# Altium schematic symbol library PCB.SCHLIB: 26 symbols
Pins are listed as number, name and electrical type; pins without a type are passive.

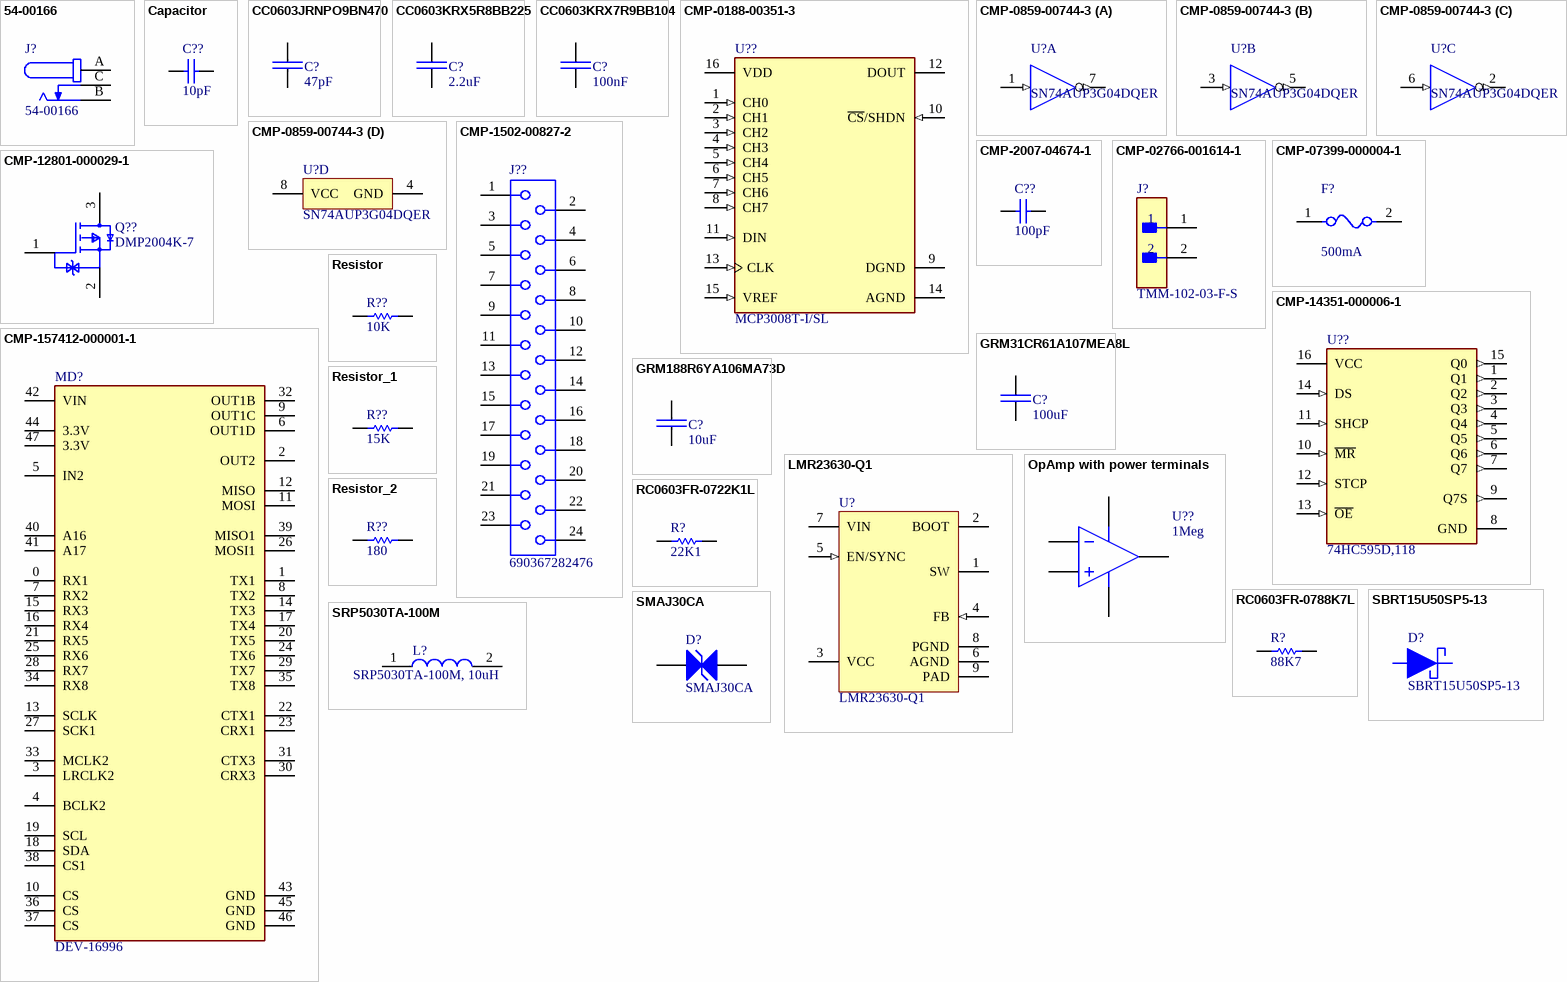
[diagram p0: symbols 54-00166 to SRP5030TA-100M]

## 54-00166
designator J?
Connector, dc jack 5.5x2.1 mm, PCB mount, 90 degrees, nickel plated, PBT, thru hole; MF: Tensility International Corp; SnapEDA_Link: https://www.snapeda.com/parts/54-00166/Tensility/view-part/?ref=snap; Package: None; Value: *; MP: 54-00166; Check_prices: https://www.snapeda.com/parts/54-00166/Tensility/view-part/?ref=eda
footprint TENSILITY_54-00166
pins: A, B, C

## Capacitor
designator C??  value 10pF  (hidden comment: Capacitor)
SimulationGenericComponent: True
simulation model C_Capacitor_Default (CAP)
pins: 1, 2

## CC0603JRNPO9BN470
designator C?, comment 47pF
CAP 47pF SM0603 NPO 50V YAGEO CC2; Manufacturer Part Number: CC0603JRNPO9BN470; Tolerance (%): 5; Voltage Rating (Volts): 50; Category: Capacitor; Manufacturer: Yageo; Package: 0603; Value: 47pF; Supplier Part Number 1: 722042; Supplier 1: Farnell; ComponentLink1URL: http://www.yageo.com; ComponentLink1Description: Manufacturer Website; Supplier 2: Digi-Key; Supplier Part Number 2: 311-1065-1-ND
footprint CAP_SM0603_YAGEOCC2_N (Capacitor, Yageo CC Class2, SM0603, IPC Medium Density)
pins: 1, 2

## CC0603KRX5R8BB225
designator C?, comment 2.2uF
CAP CER 2.2UF 25V X5R 0603; Manufacturer: Yageo; Manufacturer Part Number: CC0603KRX7R9BB183; Tolerance (%): 10; Voltage Rating (Volts): 50; Category: Capacitor; Package: 0603; Value: 2.2uF; Supplier Part Number 1: 3019743; Supplier 1: Farnell; ComponentLink1URL: http://www.yageo.com; ComponentLink1Description: Manufacturer Website; Supplier 2: Digi-Key
footprint CAP_SM0603_YAGEOCC2_N (Capacitor, Yageo CC Class2, SM0603, IPC Medium Density)
pins: 1, 2

## CC0603KRX7R9BB104
designator C?, comment 100nF
CAP 100nF SM0603 X7R 50V YAGEO CC2; Manufacturer Part Number: CC0603KRX7R9BB104; Tolerance (%): 10; Voltage Rating (Volts): 50; Category: Capacitor; Manufacturer: Yageo; Package: 0603; Value: 100nF; Supplier Part Number 1: 1362556; Supplier 1: Farnell; ComponentLink1URL: http://www.yageo.com; ComponentLink1Description: Manufacturer Website; Supplier 2: Digi-Key; Supplier Part Number 2: 311-1344-1-ND
footprint CAP_SM0603_YAGEOCC2_N (Capacitor, Yageo CC Class2, SM0603, IPC Medium Density)
pins: 1, 2

## CMP-0188-00351-3
designator U??, comment MCP3008T-I/SL
IC ADC 10BIT SAR 16SOIC; Resolution: 10b; Output Voltage: 4.1V; Number of Channels: 8; Number of Elements: 1; Number of Bits: 10; Full Scale Error: 1LSB; Signal to Noise Ratio (SNR): 200dB; Interface: SPI; Nominal Supply Current: 425uA; Sampling Rate: 200KS/s; Supply Type: Single; Min Supply Voltage: 2.7V; Max Supply Voltage: 5.5V; Operating Supply Voltage: 5V; Polarity: Unipolar; Min Operating Temperature: -40°C; REACH SVHC: No SVHC; Integral Nonlinearity (INL): 1LSB; Mount: Surface Mount; Number of Converters: 1; Differential Nonlinearity: 1LSB; Contact Plating: Tin; Lead Free: Lead Free; Conversion Rate: 200KS/s; Radiation Hardening: No; Max Operating Temperature: 85°C; Case/Package: SOIC; Package Quantity: 2600; Number of Pins: 16; Packaging: Tape and Reel; Number of A/D Converters: 1
footprint FP-C04-108-MFG
footprint FP-C04-108-IPC_C
footprint FP-C04-108-IPC_B
footprint FP-C04-108-IPC_A
pins: 1 CH0 (in), 2 CH1 (in), 3 CH2 (in), 4 CH3 (in), 5 CH4 (in), 6 CH5 (in), 7 CH6 (in), 8 CH7 (in), 9 DGND (power), 10 ~{CS}/SHDN (in), 11 DIN (in), 12 DOUT (hiz), 13 CLK (in), 14 AGND (power), 15 VREF (in), 16 VDD (power)

## CMP-0859-00744-3
designator U?, comment SN74AUP3G04DQER
Low-Power Triple Inverter Gate, DQE0008A, LARGE T&R; Manufacturer: Texas Instruments; Voltage(Nom)(V): 0.8,1.2,1.5,1.8,2.5,3.3; Rating: Catalog; Schmitt Trigger: No; tpd @ Nom Voltage(Max)(ns): 32.8,20.9,14.2,11,7.6,6.2; ICC @ Nom Voltage(Max)(mA): 0.0009; Output Drive (IOL/IOH)(Max)(mA): 20/-20; Logic: Inverting; VCC(Min)(V): 0.8; Output Type: CMOS; Bits(#): 3; F @ Nom Voltage(Max)(Mhz): 100; VCC(Max)(V): 3.6; Sub-Family: Inverting Buffer/Driver; Technology Family: AUP; Operating Temperature Range(C): -40 to 85; PackageReference: DQE0008A; Generic Part Number: SN74AUP3G04; 3-State Output: No; Input Type: CMOS; DatasheetVersion: SCES762C
footprint DQE0008A_V (SON, 8-Leads, Body 1.4x1mm, Pitch 0.35mm, TI Recommend)
part A pins: 1 1A (in), 7 1Y (out)
part B pins: 3 2A (in), 5 2Y (out)
part C pins: 2 3Y (out), 6 3A (in)
part D pins: 4 GND (power), 8 VCC (power)

## CMP-1502-00827-2
designator J??, comment 690367282476
NexarPartId: 65687603; Pitch: 2.54mm; Insulation Resistance: 1GΩ; Contact Resistance: 10mΩ; Operating Supply Voltage: 100V; Gender: Female; Current Rating: 1.5A; Lead Pitch: 2.54mm; Max Operating Temperature: 105°C; RoHS: Compliant; Min Operating Temperature: -40°C; Packaging: Tape and Reel; Number of Pins: 24; Length: 31.01mm
footprint 690367282476 (WR-MM Female SMT Connector with Polarization)
pins: 1, 2, 3, 4, 5, 6, 7, 8, 9, 10, 11, 12, 13, 14, 15, 16, 17, 18, 19, 20, 21, 22, 23, 24

## CMP-2007-04674-1
designator C??, comment 100pF
Part Number: 0805ZC105KAZ2A; Manufacturer: AVX Interconnect / Elco
footprint CAPC2013X140X50LL20T25 (Chip Capacitor, 2-Leads, Body 2.00x1.25mm, IPC High Density)
footprint CAPC2013X140X50NL20T25 (Chip Capacitor, 2-Leads, Body 2.00x1.25mm, IPC Medium Density)
footprint CAPC2013X140X50ML20T25 (Chip Capacitor, 2-Leads, Body 2.00x1.25mm, IPC Low Density)
pins: 1, 2
1 alternate drawing of the same symbol

## CMP-02766-001614-1
designator J?, comment TMM-102-03-F-S
CONN HEADER VERT 2POS 2MM; Number of Contacts: 2; Gender: Male; Pitch: 2mm; Packaging: Bulk; RoHS Compliant: Yes; Termination: Solder; Contact Plating: Gold; Mount: Through Hole; Number of Rows: 1; Radiation Hardening: No; Lead Free: Lead Free
footprint FP-TMM-102-03-F-S-MFG
pins: 1, 2

## CMP-07399-000004-1
designator F?, comment 500mA
FUSE BOARD MNT 500MA 50VDC 0603; Manufacturer: Bourns Inc.; Manufacturer Part Number: SF-0603S050-2; Fuse I2T: 0.009A2Sec; Fuse Current: 0.5A; Fuse Interrupt Ac Current: 50A; Max Fuse Ac Voltage: 35V; Resistance: 232mΩ; Fuse Blow Speed: Slow; Value: 232mΩ; Max Fuse Dc Voltage: 50V; Automotive: No; Category: Fuse; Temperature Range High: +105°C; Device Class L1: Circuit Protection; Height: 0.55mm; RoHS: TRUE; ComponentLink2URL: https://www.bourns.com/docs/product-datasheets/sf0603s.pdf; Ipc Land Pattern Name: CAPC16080X45; Temperature Range Low: -20°C; Mouser Description: Surface Mount Fuses 0.50A Slow Blow SinglFuse; Package: SF-0603S; Device Class L3: unset; Digikey Description: FUSE BOARD MNT 500MA 50VDC 0603; Device Class L2: Fuses; Lead Free: Yes; Temperature: -20°C to +105°C; ComponentLink2Description: Datasheet; Octopart: https://octopart.com/sf-0603s050-2-bourns-10486821; Fuse Interrupt Dc Current: 50A
footprint FP-SF-0603S-MFG
footprint FP-SF-0603S-IPC_C
footprint FP-SF-0603S-IPC_B
footprint FP-SF-0603S-IPC_A
pins: 1, 2

## CMP-12801-000029-1
designator Q??, comment DMP2004K-7
MOSFET P-CH 20V 600MA SOT23-3; Manufacturer: Diodes Inc.; Max Junction Temp: +150°C; Turn On Delay Time: 8.5ns; Gate To Source Voltage: 8V; Input Capacitace At Vds: 175pF @ -16V; Rthja Max: 227°C/W; Drain To Source Resistance: 1.1Ω; Turn Off Delay Time: 20.2ns; Standoff Height: 0.013mm; Drain To Source Breakdown Voltage: -20V; Number Of P Channels: 1; Power Dissipation: 550mW; Pulse Drain Current: -1.9A; Depletion Mode: False; Max Forward Diode Voltage: -1.2V; Threshold Vgs Min: -0.5V; Threshold Vgs Max: -1V; Continuous Drain Current: -600mA; Manufacturer Part Number: DMP2004K-7; Height: 1.1mm; ComponentLink2Description: Datasheet; ComponentLink2URL: https://www.diodes.com/assets/Datasheets/ds30933.pdf; Package: SOT23; Footprint Url: https://www.diodes.com/assets/Package-Files/SOT23.pdf; Lead Free: Yes; Octopart: https://octopart.com/dmp2004k-7-diodes+inc.-7151877; Digikey Description: MOSFET P-CH 20V 600MA SOT23-3; Device Class L1: Discrete Semiconductors; Drain To Source Voltage: -20V; Mouser Description: MOSFET P-Channel; Number Of Channels: 1; Device Class L3: MOSFETs; Temperature: -55°C to +150°C; Category: Trans; Device Class L2: Transistors; Automotive: No; Temperature Range High: +150°C; RoHS: TRUE; Temperature Range Low: -55°C
footprint FP-SOT23-MFG
footprint FP-SOT23-IPC_C
footprint FP-SOT23-IPC_B
footprint FP-SOT23-IPC_A
pins: 1 G, 2 S, 3 D

## CMP-14351-000006-1
designator U??, comment 74HC595D,118
IC SHIFT REGISTER 8BIT 16SOIC; RoHS Compliant: Yes
footprint FP-SOT109-1-IPC_C
footprint FP-SOT109-1-MFG
footprint FP-SOT109-1-IPC_B
footprint FP-SOT109-1-IPC_A
pins: 1 Q1 (out), 2 Q2 (out), 3 Q3 (out), 4 Q4 (out), 5 Q5 (out), 6 Q6 (out), 7 Q7 (out), 8 GND (power), 9 Q7S (out), 10 ~{MR} (in), 11 SHCP (in), 12 STCP (in), 13 ~{OE} (in), 14 DS (in), 15 Q0 (out), 16 VCC (power)

## CMP-157412-000001-1
designator MD?, comment DEV-16996
TEENSY 4.1 (HEADERS)
footprint FP-DEV-16996-MFG
pins: 0 RX1, 1 TX1, 2 OUT2, 3 LRCLK2, 4 BCLK2, 5 IN2, 6 OUT1D, 7 RX2, 8 TX2, 9 OUT1C, 10 CS, 11 MOSI, 12 MISO, 13 SCLK, 14 TX3, 15 RX3, 16 RX4, 17 TX4, 18 SDA, 19 SCL, 20 TX5, 21 RX5, 22 CTX1, 23 CRX1, 24 TX6, 25 RX6, 26 MOSI1, 27 SCK1, 28 RX7, 29 TX7, 30 CRX3, 31 CTX3, 32 OUT1B, 33 MCLK2, 34 RX8, 35 TX8, 36 CS, 37 CS, 38 CS1, 39 MISO1, 40 A16, 41 A17, 42 VIN, 43 GND, 44 3.3V, 45 GND, 46 GND, 47 3.3V

## GRM31CR61A107MEA8L
designator C?, comment 100uF
Ceramic Capacitor, Multilayer, Ceramic, 10V, 20% +Tol, 20% -Tol, X5R, 15% TC, 100uF, Surface Mount, 1206; Manufacturer: Murata; Manufacturer Part Number: GRM31CR61A107MEA8L; Supplier: Arrow Electronics; Supplier Part Number: GRM31CR61A107MEA8L; RoHS: Yes; Category: Ceramic Capacitors; Stock: 6000; Pricing: 2000=0.1239, 10000=0.1122, 50000=0.0993 (USD); RoHS Compliant: Yes; ComponentLink1URL: https://datasheet.octopart.com/GRM31CR61A107MEA8L-Murata-datasheet-165579666.pdf?src-supplier=TME; ComponentLink1Description: https://datasheet.octopart.com/GRM31CR61A107MEA8L-Murata-datasheet-165579666.pdf?src-supplier=TME
footprint FP-GRM31C-0_3-e0_3_0_8-IPC_A
pins: 1, 2

## GRM188R6YA106MA73D
designator C?, comment 10uF
Ceramic Capacitor, Multilayer, Ceramic, 35V, 20% +Tol, 20% -Tol, X5R, 15% TC, 10uF, Surface Mount, 0603; Manufacturer: Murata; Manufacturer Part Number: GRM188R6YA106MA73D; Multilayer: Yes; Supplier: Arrow Electronics; Supplier Part Number: GRM188R6YA106MA73D; RoHS: Yes; Category: Ceramic Capacitors; Stock: 56000; Pricing: 4000=0.0516, 8000=0.043, 24000=0.0355 (USD); Mounting Technology: Surface Mount; Pins: 2; Dielectric Material: Ceramic; Package Shape: Rectangular; Case/Package: 0603; Terminal Finish: Nickel; Min Operating Temperature: -55°C; Max Operating Temperature: 85°C; JESD-609 Code: e3; Value: 10uF; Capacitor Type: Ceramic; Tolerance  (fill in as +-): 20%; Packaging: Tape and Reel; Tolerance (fill in as +-): 20%; Rated DC Voltage (URdc): 35V; Temperature Characteristics Code: X5R; Termination: Wraparound; Reach SVHC Compliant: Yes; RoHS Compliant: Yes; ComponentLink1URL: https://datasheet.ciiva.com:443/pdfs/VipMasterIC/IC/MURE/MURE-S-A0004349797/MURE-S-A0004352457-1.pdf?src-supplier=IHS+Markit; ComponentLink1Description: https://datasheet.ciiva.com:443/pdfs/VipMasterIC/IC/MURE/MURE-S-A0004349797/MURE-S-A0004352457-1.pdf?src-supplier=IHS+Markit; ComponentLink2URL: http://search.murata.co.jp/Ceramy/image/img/A01X/G101/ENG/GRM188R6YA106MA73-01.pdf?src-supplier=Digikey; ComponentLink2Description: http://search.murata.co.jp/Ceramy/image/img/A01X/G101/ENG/GRM188R6YA106MA73-01.pdf?src-supplier=Digikey; ComponentLink3URL: https://www.murata.com/~/media/webrenewal/support/library/catalog/products/capacitor/mlcc/c02e.ashx?la=en-us&src-supplier=Digikey; ComponentLink3Description: https://www.murata.com/~/media/webrenewal/support/library/catalog/products/capacitor/mlcc/c02e.ashx?la=en-us&src-supplier=Digikey; ComponentLink4URL: https://datasheet.octopart.com/GRM188R6YA106MA73D-Murata-datasheet-149523261.pdf?src-supplier=Newark; ComponentLink4Description: https://datasheet.octopart.com/GRM188R6YA106MA73D-Murata-datasheet-149523261.pdf?src-supplier=Newark; ComponentLink5URL: https://datasheet.octopart.com/GRM188R6YA106MA73D-Murata-datasheet-86813743.pdf?src-supplier=Future+Electronics; ComponentLink5Description: https://datasheet.octopart.com/GRM188R6YA106MA73D-Murata-datasheet-86813743.pdf?src-supplier=Future+Electronics; ComponentLink6URL: http://search.murata.co.jp/Ceramy/image/img/A01X/G101/ENG/GRM188R6YA106MA73-01.pdf?src-supplier=Future+Electronics; ComponentLink6Description: http://search.murata.co.jp/Ceramy/image/img/A01X/G101/ENG/GRM188R6YA106MA73-01.pdf?src-supplier=Future+Electronics; ComponentLink7URL: http://search.murata.co.jp/Ceramy/image/img/A01X/G101/ENG/GRM188R6YA106MA73-01.pdf?src-supplier=Mouser; ComponentLink7Description: http://search.murata.co.jp/Ceramy/image/img/A01X/G101/ENG/GRM188R6YA106MA73-01.pdf?src-supplier=Mouser; ComponentLink8URL: http://search.murata.co.jp/Ceramy/image/img/A01X/G101/ENG/GRM188R6YA106MA73-01.pdf?src-supplier=TTI; ComponentLink8Description: http://search.murata.co.jp/Ceramy/image/img/A01X/G101/ENG/GRM188R6YA106MA73-01.pdf?src-supplier=TTI; ComponentLink9URL: https://datasheet.octopart.com/GRM188R6YA106MA73D-Murata-datasheet-165579666.pdf?src-supplier=TME; ComponentLink9Description: https://datasheet.octopart.com/GRM188R6YA106MA73D-Murata-datasheet-165579666.pdf?src-supplier=TME
footprint CAP_SM0603_YAGEOCC2_N (Capacitor, Yageo CC Class2, SM0603, IPC Medium Density)
pins: 1, 2

## LMR23630-Q1
designator U?
Buck Converter; Manufacturer 1: Texas Instruments; Manufacturer Part Number 1: LMR23630AFQDDARQ1; Supplier 1: Digi-Key; Supplier Part Number 1: 296-45260-1-ND; Stock 1: 2872; Pricing 1: 1=3.97, 10=3.564, 100=2.9204, 500=2.486, 1000=2.0967 (USD); Min Operating Temperature: -40°C; Max Operating Temperature: 125°C
footprint DDA0008E_N (SOP, 8-Leads, Body 4x5mm, Pitch 1.27mm, Thermal Pad 2.4x3.1mm, IPC Medium Density)
pins: 1 SW, 2 BOOT, 3 VCC (power), 4 FB (in), 5 EN/SYNC (in), 6 AGND (power), 7 VIN, 8 PGND (power), 9 PAD (power)

## OpAmp with power terminals
designator U??, comment GAIN: 1Meg  (hidden comment: Ideal Operational Amplifier)
SimulationGenericComponent: True
simulation model IDEALOPAMP_5NODES (------------------------)
pins: 1 IN-, 2 IN+, 3 OUT, 4 V+ (power), 5 V- (power)

## RC0603FR-0722K1L
designator R?, comment 22K1
RES 22K1 SM0603 YAGEO RC_L; Manufacturer Part Number: RC0603FR-0722KL; Power (Watts): 0.1; Resistance (Ohms): 22000; Tolerance (%): 1; Category: Resistor; Manufacturer: Yageo; Package: 0603; Value: 22K1; Supplier Part Number 1: 9238646; Supplier 1: Farnell; ComponentLink1URL: http://www.yageo.com; ComponentLink1Description: Manufacturer Website; Supplier 2: Digi-Key; Supplier Part Number 2: 311-22.0KHRCT-ND
footprint RES_SM0603_YAGEORC_N (Resistor, Yageo RC_L, SM0603, IPC Medium Density)
pins: 1, 2

## RC0603FR-0788K7L
designator R?, comment 88K7
RES 88K7 SM0603 YAGEO RC_L; Manufacturer Part Number: RC0603FR-0782KL; Power (Watts): 0.1; Resistance (Ohms): 82000; Tolerance (%): 1; Category: Resistor; Manufacturer: Yageo; Package: 0603; Value: 88K7; Supplier Part Number 1: 9238719; Supplier 1: Farnell; ComponentLink1URL: http://www.yageo.com; ComponentLink1Description: Manufacturer Website; Supplier 2: Digi-Key; Supplier Part Number 2: 311-82.0KHRCT-ND
footprint RES_SM0603_YAGEORC_N (Resistor, Yageo RC_L, SM0603, IPC Medium Density)
pins: 1, 2

## Resistor
designator R??  value 10K  (hidden comment: Resistor)
TC1: 0; SimulationGenericComponent: True; TC2: 0
simulation model R_Resistor_Default (Model Description)
pins: 1, 2

## Resistor_1
designator R??, comment value 15K  (hidden comment: Resistor)
TC1: 0; SimulationGenericComponent: True; TC2: 0
simulation model R_Resistor_Default (Model Description)
pins: 1, 2

## Resistor_2
designator R??, comment value 180  (hidden comment: Resistor)
TC1: 0; SimulationGenericComponent: True; TC2: 0
simulation model R_Resistor_Default (Model Description)
pins: 1, 2

## SBRT15U50SP5-13
designator D?
Reverse Polarity Protection; Manufacturer: Diodes Incorporated; Diode Type: Super Barrier; Current - Average Rectified (Io): 15A; Speed: Fast Recovery =< 500ns, > 200mA (Io); Supplier 1: Digi-Key; Supplier Part Number 1: SBRT15U50SP5-13DICT-ND; Manufacturer Part Number: SBRT15U50SP5-13; RoHS: RoHS Compliant; Category: Discrete Semiconductor Products; Stock 1: 12134; Pricing 1: 1=0.93, 10=0.823, 100=0.6306, 500=0.49852, 1000=0.39882 (USD); Packaging: Cut Tape (CT); Part Status: Active; Capacitance @ Vr, F: -; Mounting Type: Surface Mount; Package / Case: PowerDI™ 5; Supplier Device Package: PowerDI®5; Operating Temperature - Junction: -65°C ~ 150°C; ComponentLink1URL: https://media.digikey.com/pdf/Data%20Sheets/Diodes%20PDFs/SBRT15U50SP5.pdf; ComponentLink1Description: https://media.digikey.com/pdf/Data%20Sheets/Diodes%20PDFs/SBRT15U50SP5.pdf
footprint SBRT15U50SP5-13
pins: 1, 2

## SMAJ30CA
designator D?
Transient Voltage Suppression Diode, 30 V, -65 to 150 degC, 2-Pin SMD, RoHS, Tape and Reel; Manufacturer: Littelfuse; Current - Peak Pulse (10/1000µs): 8.3A; Power - Peak Pulse: 400W; Voltage - Breakdown (Min): 33.3V; Bidirectional Channels: 1; Power Line Protection: No; Voltage - Clamping (Max) @ Ipp: 48.4V; Voltage - Reverse Standoff (Typ): 30V; Type: Zener; Category: CircuitProtection; Datasheet Version: 11/2015; Package Description: 2-Pin Surface Mount Device, Body 4.295 x 2.595 mm; Family: TVS-Diodes; Manufacturer URL: http://www.littelfuse.com/; Series: SMAJ; Package / Case: DO-214AC,SMA; Capacitance @ Frequency: -; Package Reference: DO-214AC; Packaging: Digi-Reel®; Applications: GeneralPurpose; Mounting Technology: SurfaceMount; Mounting Type: SurfaceMount; Unidirectional Channels: -; Supplier Device Package: DO-214AC(SMA); Operating Temperature: -55°C~150°C(TJ); Datasheet URL: http://www.littelfuse.com/~/media/electronics/datasheets/tvs_diodes/littelfuse_tvs_diode_smaj_datasheet.pdf.pdf; Manufacturer Part Number: SMAJ30CA
footprint LFUS-DO-214AC-A-2_V (Molded Diode, 2-Leads, Body 4.6x2.79mm)
pins: 1 A, 2 A

## SRP5030TA-100M
designator L?, comment SRP5030TA-100M, 10uH
10 uH Inductor; Manufacturer_Name: Bourns; Datasheet Link: https://www.bourns.com/docs/Product-Datasheets/SRP5030TA.pdf; Height: 3mm; Manufacturer_Part_Number: SRP5030TA-100M; Mouser Part Number: 652-SRP5030TA-100M; Mouser Price/Stock: https://www.mouser.co.uk/ProductDetail/Bourns/SRP5030TA-100M?qs=ZwKJWZfDtNjU%2FL6UrUlO%2Fw%3D%3D; Arrow Part Number: SRP5030TA-100M; Arrow Price/Stock: https://www.arrow.com/en/products/srp5030ta-100m/bourns?utm_currency=USD&region=nac
footprint INDPM5752X300N
pins: 1, 2